# Altium schematic symbol library TB001-500-10BE.SchLib: 1 symbol
Pins are listed as number, name and electrical type; pins without a type are passive.

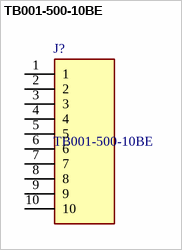
[diagram p0: symbol TB001-500-10BE]

## TB001-500-10BE
designator J?
Fixed Terminal Blocks; Manufacturer_Name: CUI Devices; Geometry.Height: 12.5mm; Mouser Part Number: 490-TB001-500-10BE; Mouser Price/Stock: https://www.mouser.co.uk/ProductDetail/CUI-Devices/TB001-500-10BE?qs=vLWxofP3U2zH1ZAwWBP5mg%3D%3D; Manufacturer_Part_Number: TB001-500-10BE; Datasheet Link: https://componentsearchengine.com/Datasheets/1/TB001-500-10BE.pdf
footprint SHDR10W100P0X500_1X10_5000X900X1250P
pins: 1, 2, 3, 4, 5, 6, 7, 8, 9, 10